# Altium schematic symbol library 74LVC2T45.SchLib: 1 symbol
Pins are listed as number, name and electrical type; pins without a type are passive.

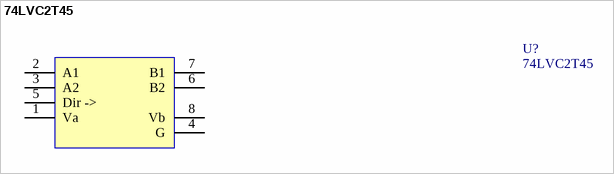
[diagram p0: symbol 74LVC2T45]

## 74LVC2T45
designator U?
IC, Translator
pins: 1 Va (power), 2 A1, 3 A2, 4 G (power), 5 Dir ->, 6 B2, 7 B1, 8 Vb (power)